# Altium schematic symbol library TMP_SNSR(2.3-5.5V, Analog, 10mV°C, SC-70-5.SchLib: 1 symbol
Pins are listed as number, name and electrical type; pins without a type are passive.

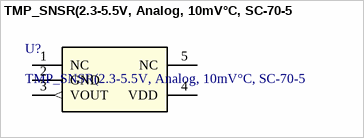
[diagram p0: symbol TMP_SNSR(2.3-5.5V, Analog, 10mV°C, SC-70-5]

## TMP_SNSR(2.3-5.5V, Analog, 10mV°C, SC-70-5
designator U?
1C analog temperature sensor, 10 mV/C 5-SC70 -40 to 150; Manufacturer: Texas Instruments; Manufacturer_PN: TMP235A2DCKR; Package: SC-70-5; Datasheet: https://www.ti.com/lit/ds/symlink/tmp235.pdf?HQS=dis-dk-null-digikeymode-dsf-pf-null-wwe&ts=1764187272436&ref_url=https%253A%252F%252Fwww.ti.com%252Fgeneral%252Fdocs%252Fsuppproductinfo.tsp%253FdistId%253D10%2526gotoUrl%253Dhttps%253A%252F%252Fwww.ti.com%252Flit%252Fgpn%252Ftmp235; Digikey_Link: https://www.digikey.it/en/products/detail/texas-instruments/TMP235A2DCKR/8546324?s=N4IgTCBcDaICoFkAKYDMBWAgmAIgYQGkAlEAXQF8g
footprint SOT-SC70_DCK_5_TEX
pins: 1 NC, 2 GND (power), 3 VOUT (out), 4 VDD (power), 5 NC